# EAGLE library part MK20DX128VLH7-LQFP64 (library glasses)
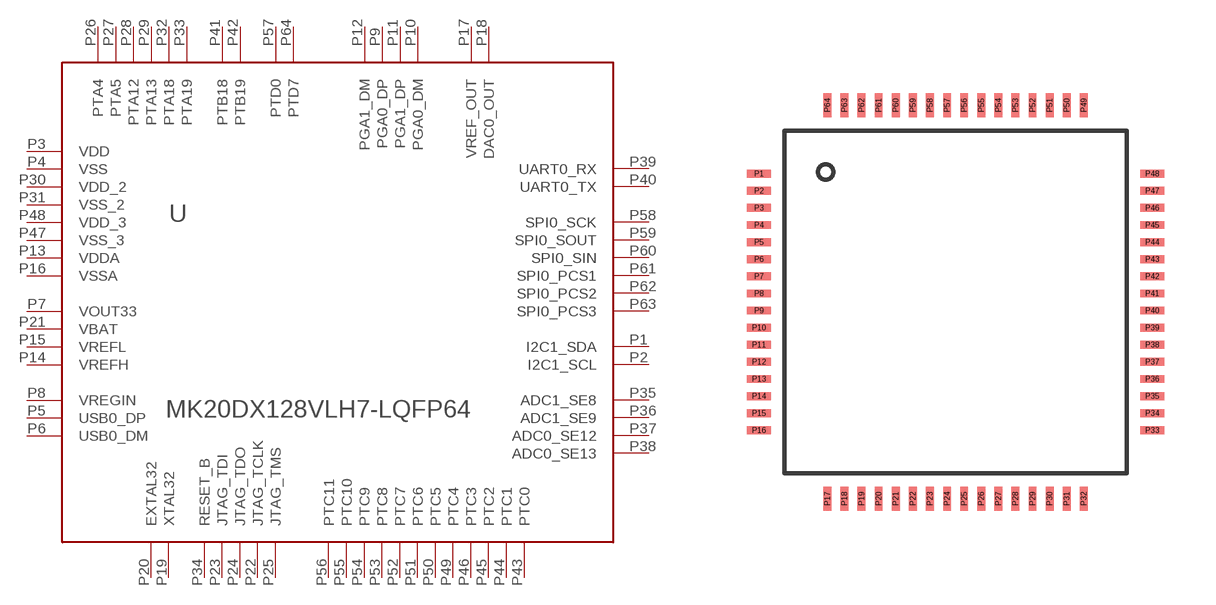
[diagram p3: symbol with the pads of LQFP_64; footprint LQFP_64]

Designator prefix -

## MK20DX128VLH7-LQFP64  [LQFP_64]
P1  I2C1_SDA
P2  I2C1_SCL
P3  VDD
P4  VSS
P5  USB0_DP
P6  USB0_DM
P7  VOUT33
P8  VREGIN
P9  PGA0_DP
P10  PGA0_DM
P11  PGA1_DP
P12  PGA1_DM
P13  VDDA
P14  VREFH
P15  VREFL
P16  VSSA
P17  VREF_OUT
P18  DAC0_OUT
P19  XTAL32
P20  EXTAL32
P21  VBAT
P22  JTAG_TCLK
P23  JTAG_TDI
P24  JTAG_TDO
P25  JTAG_TMS
P26  PTA4
P27  PTA5
P28  PTA12
P29  PTA13
P30  VDD_2
P31  VSS_2
P32  PTA18
P33  PTA19
P34  RESET_B
P35  ADC1_SE8
P36  ADC1_SE9
P37  ADC0_SE12
P38  ADC0_SE13
P39  UART0_RX
P40  UART0_TX
P41  PTB18
P42  PTB19
P43  PTC0
P44  PTC1
P45  PTC2
P46  PTC3
P47  VSS_3
P48  VDD_3
P49  PTC4
P50  PTC5
P51  PTC6
P52  PTC7
P53  PTC8
P54  PTC9
P55  PTC10
P56  PTC11
P57  PTD0
P58  SPI0_SCK
P59  SPI0_SOUT
P60  SPI0_SIN
P61  SPI0_PCS1
P62  SPI0_PCS2
P63  SPI0_PCS3
P64  PTD7

## Footprint LQFP_64 (pad centres in mm)
smd 0.7 x 0.23: P1 -5.75,-1.25; P2 -5.75,-1.75; P3 -5.75,-2.25; P4 -5.75,-2.75; P5 -5.75,-3.25; P6 -5.75,-3.75; P7 -5.75,-4.25; P8 -5.75,-4.75; P9 -5.75,-5.25; P10 -5.75,-5.75; P11 -5.75,-6.25; P12 -5.75,-6.75; P13 -5.75,-7.25; P14 -5.75,-7.75; P15 -5.75,-8.25; P16 -5.75,-8.75; P33 5.75,-8.75; P34 5.75,-8.25; P35 5.75,-7.75; P36 5.75,-7.25; P37 5.75,-6.75; P38 5.75,-6.25; P39 5.75,-5.75; P40 5.75,-5.25; P41 5.75,-4.75; P42 5.75,-4.25; P43 5.75,-3.75; P44 5.75,-3.25; P45 5.75,-2.75; P46 5.75,-2.25; P47 5.75,-1.75; P48 5.75,-1.25
smd 0.23 x 0.7: P17 -3.75,-10.75; P18 -3.25,-10.75; P19 -2.75,-10.75; P20 -2.25,-10.75; P21 -1.75,-10.75; P22 -1.25,-10.75; P23 -0.75,-10.75; P24 -0.25,-10.75; P25 0.25,-10.75; P26 0.75,-10.75; P27 1.25,-10.75; P28 1.75,-10.75; P29 2.25,-10.75; P30 2.75,-10.75; P31 3.25,-10.75; P32 3.75,-10.75; P49 3.75,0.75; P50 3.25,0.75; P51 2.75,0.75; P52 2.25,0.75; P53 1.75,0.75; P54 1.25,0.75; P55 0.75,0.75; P56 0.25,0.75; P57 -0.25,0.75; P58 -0.75,0.75; P59 -1.25,0.75; P60 -1.75,0.75; P61 -2.25,0.75; P62 -2.75,0.75; P63 -3.25,0.75; P64 -3.75,0.75